# Altium footprint library 60312202111527.PcbLib: 1 footprints
Each footprint in its own frame and in the unit in brackets; x right, y up, seen from the top. Pads: shape width x height; smd on the part's side, far side on the other; paste and mask are expansions set on the pad; w line width, h text height; cw(c..) or ccw(c..) is an arc to the next point about the centre after c.
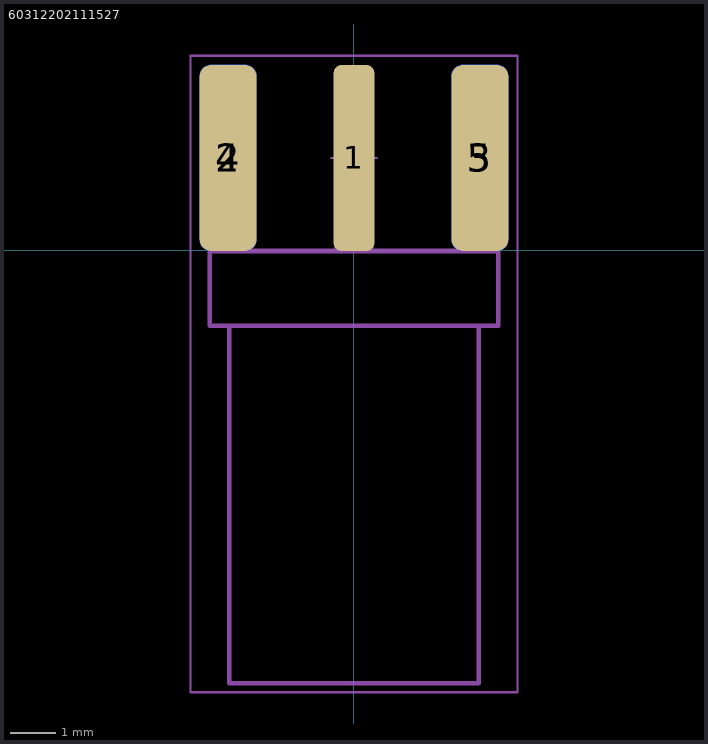
[diagram p0: the footprint, top view; thin cyan lines are the x and y axes]

## 60312202111527 [mm]
pads (5):
  rrect40% 0.9x4.1 smd paste-0.02 mask+0.05: 1(0,2.032)
  rrect40% 1.25x4.1 smd paste-0.02 mask+0.05: 2(-2.775,2.032) 3(2.775,2.032)
  rrect40% 1.25x4.1 smd far side paste-0.02 mask+0.05: 4(-2.775,2.032) 5(2.775,2.032)
Mechanical 1:
  lines w0.1: -3.175,-0.018 3.175,-0.018
  text "PCB END" at -2.2,-1.268 h0.76
Top Assembly:
  lines w0.1: -2.75,-1.668 -2.75,-9.538 2.75,-9.538 2.75,-1.668 ; -3.175,-1.668 3.175,-1.668 3.175,3.792 2.365,3.792 2.365,-0.018 0.38,-0.018 0.38,3.792 -0.38,3.792 -0.38,-0.018 -2.365,-0.018 -2.365,3.792 -3.175,3.792 -3.175,-1.668
Top Courtyard:
  lines w0.05: -0.5,2.032 0.5,2.032 ; 0,1.532 0,2.532 ; -3.6,-9.738 3.6,-9.738 3.6,4.282 -3.6,4.282 -3.6,-9.738
3D body "60312202111527.stp": height 3.55, standoff -2.8, extent -3.175,-9.538 3.175,3.792